# Altium schematic symbol library GENERIC_SSR_MOSFET_OUT.SchLib: 1 symbol
Pins are listed as number, name and electrical type; pins without a type are passive.

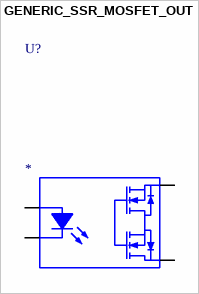
[diagram p0: symbol GENERIC_SSR_MOSFET_OUT]

## GENERIC_SSR_MOSFET_OUT
designator U?
pins: 1 A "Anode", 2 K "Cathode", 3 NO1, 4 NO2